# Altium footprint library R8 Bran.PcbLib: 70 footprints (part 3 of 5)
Each footprint in its own frame and in the unit in brackets; x right, y up, seen from the top. Pads: shape width x height; smd on the part's side, far side on the other; paste and mask are expansions set on the pad; w line width, h text height; cw(c..) or ccw(c..) is an arc to the next point about the centre after c.
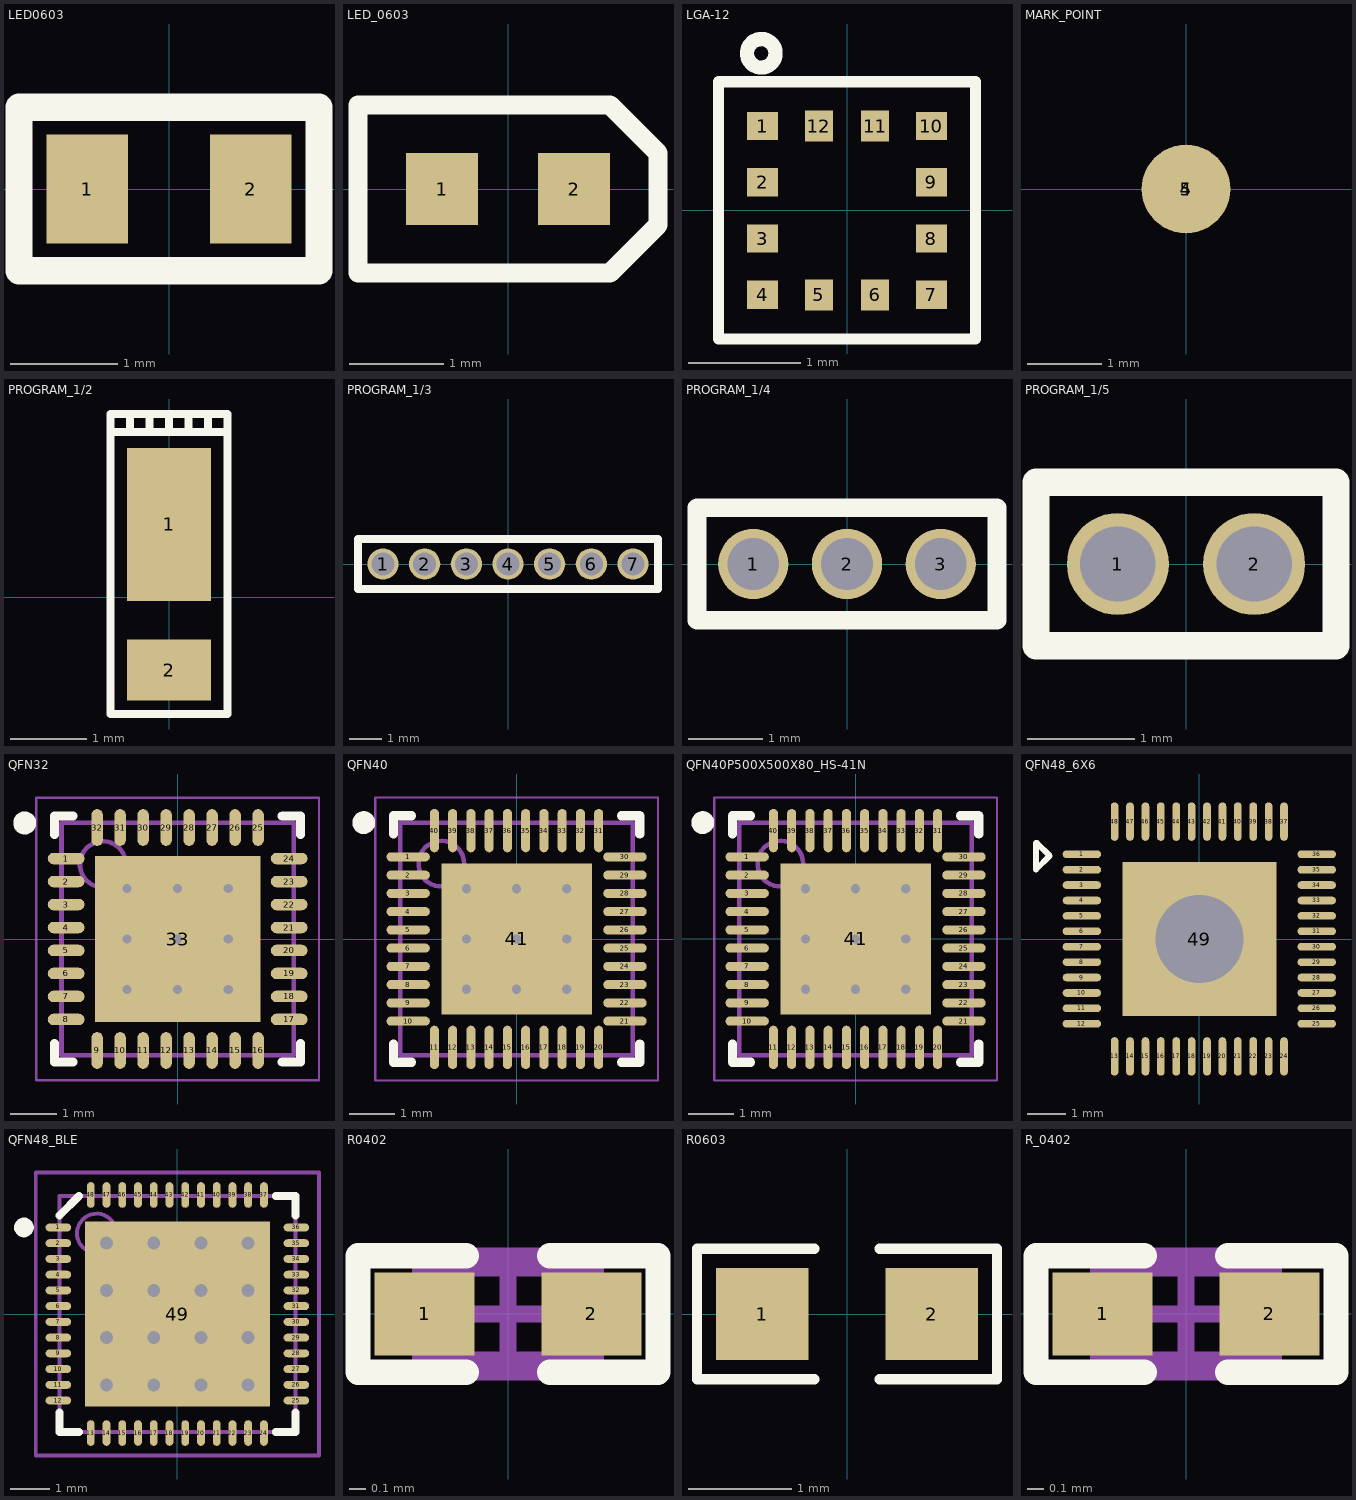
[diagram p2: the footprints below, top view; thin cyan lines are the x and y axes]

## LED0603 [mil]
pads (2):
  rect 30x40 smd: 1(-30,0) 2(30,0)
Top Overlay:
  lines w10: -55,-30 55,-30 55,30 -55,30 -55,-30
3D body: height 31.5, standoff 0, extent -49,-24 49,24

## LED_0603 [mil]
pads (2):
  rect 30x30 smd: 1(-27.5,0) 2(27.5,0)
Top Overlay:
  lines w8: -62.5,-35 42.5,-35 62.5,-15 62.5,15 42.5,35 -62.5,35 -62.5,-35
3D body: height 19.68, standoff 0, extent -66.5,-39 66.5,39

## LGA-12 [mm]
pads (12):
  rect 0.275x0.25 smd: 1(-0.75,0.75) 2(-0.75,0.25) 3(-0.75,-0.25) 4(-0.75,-0.75) 7(0.75,-0.75) 8(0.75,-0.25) 9(0.75,0.25) 10(0.75,0.75)
  rect 0.25x0.275 smd: 5(-0.25,-0.75) 6(0.25,-0.75) 11(0.25,0.75) 12(-0.25,0.75)
Top Overlay:
  circle w0.127: c-0.762,1.397 r0.127
  lines w0.1: -1.143,-1.143 -1.143,1.143 1.143,1.143 1.143,-1.143 -1.143,-1.143

## MARK_POINT [mm]
pads (2):
  round 1.2 smd: 4(0,0)
  round 4.064 on Top Solder: 5(0,0)

## PROGRAM_1/2 [mm]
pads (2):
  rect 1.1x2 smd: 1(0,0.95)
  rect 1.1x0.8 smd: 2(0,-0.95)
Top Overlay:
  lines w0.102: -0.508,2.159 -0.508,2.392 ; -0.254,2.159 -0.254,2.392 ; 0,2.159 0,2.392 ; 0.254,2.159 0.254,2.392 ; 0.508,2.159 0.508,2.392 ; -0.762,2.159 -0.762,2.392 0.762,2.392 0.762,2.159 ; -0.762,2.159 -0.762,-1.524 0.762,-1.524 0.762,2.159 ; -0.762,2.159 0.762,2.159
3D body: height 0.8, standoff 0, extent -0.652,-1.452 0.652,2.052

## PROGRAM_1/3 [mm]
pads (7):
  round 0.95 hole 0.7: 1(-3.81,0) 2(-2.54,0) 3(-1.27,0) 4(0,0) 5(1.27,0) 6(2.54,0) 7(3.81,0)
Top Overlay:
  lines w0.254: -4.572,-0.762 4.572,-0.762 4.572,0.762 -4.572,0.762 -4.572,-0.762

## PROGRAM_1/4 [mm]
pads (3):
  round 0.95 hole 0.7: 1(-1.27,0) 2(0,0) 3(1.27,0)
Top Overlay:
  lines w0.254: -2.032,-0.762 2.032,-0.762 2.032,0.762 -2.032,0.762 -2.032,-0.762

## PROGRAM_1/5 [mm]
pads (2):
  round 0.95 hole 0.7: 1(-0.635,0) 2(0.635,0)
Top Overlay:
  lines w0.254: -1.397,-0.762 1.397,-0.762 1.397,0.762 -1.397,0.762 -1.397,-0.762

## QFN32 [mm] "QFN, 32-Leads, Body 5.00x5.00mm, Pitch 0.50mm, Thermal Pad 3.70x3.70mm, IPC Medium Density"
height 0.8
pads (33):
  oval 0.8x0.25 smd: 1(-2.425,1.75) 2(-2.425,1.25) 3(-2.425,0.75) 4(-2.425,0.25) 5(-2.425,-0.25) 6(-2.425,-0.75) 7(-2.425,-1.25) 8(-2.425,-1.75) 17(2.425,-1.75) 18(2.425,-1.25) 19(2.425,-0.75) 20(2.425,-0.25) 21(2.425,0.25) 22(2.425,0.75) 23(2.425,1.25) 24(2.425,1.75)
  oval 0.25x0.8 smd: 9(-1.75,-2.425) 10(-1.25,-2.425) 11(-0.75,-2.425) 12(-0.25,-2.425) 13(0.25,-2.425) 14(0.75,-2.425) 15(1.25,-2.425) 16(1.75,-2.425) 25(1.75,2.425) 26(1.25,2.425) 27(0.75,2.425) 28(0.25,2.425) 29(-0.25,2.425) 30(-0.75,2.425) 31(-1.25,2.425) 32(-1.75,2.425)
  rect 3.6x3.6 smd: 33(0,0)
via -1.1,1.1 diameter 0.5 hole 0.2
via 0,1.1 diameter 0.5 hole 0.2
via 1.1,1.1 diameter 0.5 hole 0.2
via -1.1,0 diameter 0.5 hole 0.2
via 0,0 diameter 0.5 hole 0.2
via 1.1,0 diameter 0.5 hole 0.2
via -1.1,-1.1 diameter 0.5 hole 0.2
via 0,-1.1 diameter 0.5 hole 0.2
via 1.1,-1.1 diameter 0.5 hole 0.2
Top Overlay:
  circle w0.25: c-3.325,2.525 r0.125
  lines w0.2: -2.675,-2.275 -2.675,-2.675 -2.275,-2.675 ; -2.675,2.275 -2.675,2.675 -2.275,2.675 ; 2.275,-2.675 2.675,-2.675 2.675,-2.275 ; 2.275,2.675 2.675,2.675 2.675,2.275
Mechanical 13:
  circle w0.1: c-1.625,1.625 r0.5
  lines w0.1: -2.525,-2.525 -2.525,2.525 2.525,2.525 2.525,-2.525 -2.525,-2.525
Mechanical 15:
  lines w0.05: -3.075,-3.075 -3.075,3.075 3.075,3.075 3.075,-3.075 -3.075,-3.075
  lines w0.1: -0.5,0 0.5,0 ; 0,-0.5 0,0.5
3D body: height 0.8, standoff 0, extent -2.525,-2.525 2.525,2.525

## QFN40 [mm]
height 0.8
pads (41):
  oval 0.95x0.2 smd: 1(-2.375,1.8) 2(-2.375,1.4) 3(-2.375,1) 4(-2.375,0.6) 5(-2.375,0.2) 6(-2.375,-0.2) 7(-2.375,-0.6) 8(-2.375,-1) 9(-2.375,-1.4) 10(-2.375,-1.8) 21(2.375,-1.8) 22(2.375,-1.4) 23(2.375,-1) 24(2.375,-0.6) 25(2.375,-0.2) 26(2.375,0.2) 27(2.375,0.6) 28(2.375,1) 29(2.375,1.4) 30(2.375,1.8)
  oval 0.2x0.95 smd: 11(-1.8,-2.375) 12(-1.4,-2.375) 13(-1,-2.375) 14(-0.6,-2.375) 15(-0.2,-2.375) 16(0.2,-2.375) 17(0.6,-2.375) 18(1,-2.375) 19(1.4,-2.375) 20(1.8,-2.375) 31(1.8,2.375) 32(1.4,2.375) 33(1,2.375) 34(0.6,2.375) 35(0.2,2.375) 36(-0.2,2.375) 37(-0.6,2.375) 38(-1,2.375) 39(-1.4,2.375) 40(-1.8,2.375)
  rect 3.3x3.3 smd: 41(0,0)
via 1.1,-1.1 diameter 0.5 hole 0.2
via 0,-1.1 diameter 0.5 hole 0.2
via -1.1,-1.1 diameter 0.5 hole 0.2
via 1.1,0 diameter 0.5 hole 0.2
via 0,0 diameter 0.5 hole 0.2
via -1.1,0 diameter 0.5 hole 0.2
via 1.1,1.1 diameter 0.5 hole 0.2
via 0,1.1 diameter 0.5 hole 0.2
via -1.1,1.1 diameter 0.5 hole 0.2
Top Overlay:
  circle w0.25: c-3.35,2.55 r0.125
  lines w0.2: -2.7,-2.3 -2.7,-2.7 -2.3,-2.7 ; -2.7,2.3 -2.7,2.7 -2.3,2.7 ; 2.3,-2.7 2.7,-2.7 2.7,-2.3 ; 2.3,2.7 2.7,2.7 2.7,2.3
Mechanical 13:
  circle w0.1: c-1.65,1.65 r0.5
  lines w0.1: -2.55,-2.55 2.55,-2.55 2.55,2.55 -2.55,2.55 -2.55,-2.55
Mechanical 15:
  lines w0.05: -3.1,-3.1 3.1,-3.1 3.1,3.1 -3.1,3.1 -3.1,-3.1
  lines w0.1: -0.5,0 0.5,0 ; 0,-0.5 0,0.5
3D body: height 0.8, standoff 0, extent -2.55,-2.55 2.55,2.55

## QFN40P500X500X80_HS-41N [mm] "QFN, 40-Leads, Body 5.00x5.00mm, Pitch 0.40mm, Thermal Pad 3.30x3.30mm, IPC Medium Density"
height 0.8
pads (41):
  oval 0.95x0.2 smd: 1(-2.375,1.8) 2(-2.375,1.4) 3(-2.375,1) 4(-2.375,0.6) 5(-2.375,0.2) 6(-2.375,-0.2) 7(-2.375,-0.6) 8(-2.375,-1) 9(-2.375,-1.4) 10(-2.375,-1.8) 21(2.375,-1.8) 22(2.375,-1.4) 23(2.375,-1) 24(2.375,-0.6) 25(2.375,-0.2) 26(2.375,0.2) 27(2.375,0.6) 28(2.375,1) 29(2.375,1.4) 30(2.375,1.8)
  oval 0.2x0.95 smd: 11(-1.8,-2.375) 12(-1.4,-2.375) 13(-1,-2.375) 14(-0.6,-2.375) 15(-0.2,-2.375) 16(0.2,-2.375) 17(0.6,-2.375) 18(1,-2.375) 19(1.4,-2.375) 20(1.8,-2.375) 31(1.8,2.375) 32(1.4,2.375) 33(1,2.375) 34(0.6,2.375) 35(0.2,2.375) 36(-0.2,2.375) 37(-0.6,2.375) 38(-1,2.375) 39(-1.4,2.375) 40(-1.8,2.375)
  rect 3.3x3.3 smd: 41(0,0)
via -1.1,1.1 diameter 0.5 hole 0.2
via 0,1.1 diameter 0.5 hole 0.2
via 1.1,1.1 diameter 0.5 hole 0.2
via -1.1,0 diameter 0.5 hole 0.2
via 0,0 diameter 0.5 hole 0.2
via 1.1,0 diameter 0.5 hole 0.2
via -1.1,-1.1 diameter 0.5 hole 0.2
via 0,-1.1 diameter 0.5 hole 0.2
via 1.1,-1.1 diameter 0.5 hole 0.2
Top Overlay:
  circle w0.25: c-3.35,2.55 r0.125
  lines w0.2: -2.7,-2.3 -2.7,-2.7 -2.3,-2.7 ; -2.7,2.3 -2.7,2.7 -2.3,2.7 ; 2.3,-2.7 2.7,-2.7 2.7,-2.3 ; 2.3,2.7 2.7,2.7 2.7,2.3
Mechanical 13:
  circle w0.1: c-1.65,1.65 r0.5
  lines w0.1: -2.55,-2.55 -2.55,2.55 2.55,2.55 2.55,-2.55 -2.55,-2.55
Mechanical 15:
  lines w0.05: -3.1,-3.1 -3.1,3.1 3.1,3.1 3.1,-3.1 -3.1,-3.1
  lines w0.1: -0.5,0 0.5,0 ; 0,-0.5 0,0.5
3D body: height 0.8, standoff 0, extent -2.55,-2.55 2.55,2.55

## QFN48_6X6 [mm]
pads (49):
  oval 1x0.2 smd: 1(-3.05,2.2) 2(-3.05,1.8) 3(-3.05,1.4) 4(-3.05,1) 5(-3.05,0.6) 6(-3.05,0.2) 7(-3.05,-0.2) 8(-3.05,-0.6) 9(-3.05,-1) 10(-3.05,-1.4) 11(-3.05,-1.8) 12(-3.05,-2.2) 25(3.05,-2.2) 26(3.05,-1.8) 27(3.05,-1.4) 28(3.05,-1) 29(3.05,-0.6) 30(3.05,-0.2) 31(3.05,0.2) 32(3.05,0.6) 33(3.05,1) 34(3.05,1.4) 35(3.05,1.8) 36(3.05,2.2)
  oval 0.2x1 smd: 13(-2.2,-3.05) 14(-1.8,-3.05) 15(-1.4,-3.05) 16(-1,-3.05) 17(-0.6,-3.05) 18(-0.2,-3.05) 19(0.2,-3.05) 20(0.6,-3.05) 21(1,-3.05) 22(1.4,-3.05) 23(1.8,-3.05) 24(2.2,-3.05) 37(2.2,3.05) 38(1.8,3.05) 39(1.4,3.05) 40(1,3.05) 41(0.6,3.05) 42(0.2,3.05) 43(-0.2,3.05) 44(-0.6,3.05) 45(-1,3.05) 46(-1.4,3.05) 47(-1.8,3.05) 48(-2.2,3.05)
  rect 4x4 / inner round 3.048 / far side round 3.048 hole 2.286: 49(0,0)
Top Overlay:
  lines w0.152: -4.242,1.803 -3.886,2.159 -4.216,2.489 -4.242,2.489 -4.242,1.803

## QFN48_BLE [mm]
pads (49):
  oval 0.65x0.2 smd: 1(-3.025,2.2) 2(-3.025,1.8) 3(-3.025,1.4) 4(-3.025,1) 5(-3.025,0.6) 6(-3.025,0.2) 7(-3.025,-0.2) 8(-3.025,-0.6) 9(-3.025,-1) 10(-3.025,-1.4) 11(-3.025,-1.8) 12(-3.025,-2.2) 25(3.025,-2.2) 26(3.025,-1.8) 27(3.025,-1.4) 28(3.025,-1) 29(3.025,-0.6) 30(3.025,-0.2) 31(3.025,0.2) 32(3.025,0.6) 33(3.025,1) 34(3.025,1.4) 35(3.025,1.8) 36(3.025,2.2)
  oval 0.2x0.65 smd: 13(-2.2,-3.025) 14(-1.8,-3.025) 15(-1.4,-3.025) 16(-1,-3.025) 17(-0.6,-3.025) 18(-0.2,-3.025) 19(0.2,-3.025) 20(0.6,-3.025) 21(1,-3.025) 22(1.4,-3.025) 23(1.8,-3.025) 24(2.2,-3.025) 37(2.2,3.025) 38(1.8,3.025) 39(1.4,3.025) 40(1,3.025) 41(0.6,3.025) 42(0.2,3.025) 43(-0.2,3.025) 44(-0.6,3.025) 45(-1,3.025) 46(-1.4,3.025) 47(-1.8,3.025) 48(-2.2,3.025)
  rect 4.7x4.7 smd: 49(0,0)
via -1.8,1.8 diameter 0.66 hole 0.33
via -0.6,1.8 diameter 0.66 hole 0.33
via 0.6,1.8 diameter 0.66 hole 0.33
via 1.8,1.8 diameter 0.66 hole 0.33
via -1.8,0.6 diameter 0.66 hole 0.33
via -0.6,0.6 diameter 0.66 hole 0.33
via 0.6,0.6 diameter 0.66 hole 0.33
via 1.8,0.6 diameter 0.66 hole 0.33
via -1.8,-0.6 diameter 0.66 hole 0.33
via -0.6,-0.6 diameter 0.66 hole 0.33
via 0.6,-0.6 diameter 0.66 hole 0.33
via 1.8,-0.6 diameter 0.66 hole 0.33
via -1.8,-1.8 diameter 0.66 hole 0.33
via -0.6,-1.8 diameter 0.66 hole 0.33
via 0.6,-1.8 diameter 0.66 hole 0.33
via 1.8,-1.8 diameter 0.66 hole 0.33
Top Overlay:
  circle w0.25: c-3.9,2.2 r0.125
  lines w0.2: -3,-2.5 -3,-3 -2.5,-3 ; -3,2.5 -2.5,3 ; 2.5,-3 3,-3 3,-2.5 ; 2.5,3 3,3 3,2.5
Mechanical 13:
  circle w0.1: c-2.05,2.05 r0.5
  lines w0.1: -3,-3 -3,3 3,3 3,-3 -3,-3
Mechanical 15:
  lines w0.1: -0.5,0 0.5,0 ; 0,-0.5 0,0.5 ; -3.6,-3.6 -3.6,3.6 3.6,3.6 3.6,-3.6 -3.6,-3.6
3D body "User Library-QFN48.step": height 0.86, standoff -0.01, extent -3.02,-3.02 3.02,3.02

## R0402 [mm]
pads (2):
  rect 0.6x0.5 smd: 1(-0.5,0) 2(0.5,0)
Top Overlay:
  lines w0.152: -0.25,-0.35 -0.9,-0.35 -0.9,0.35 -0.25,0.35 ; 0.25,-0.35 0.9,-0.35 0.9,0.35 0.25,0.35
Mechanical 13:
  lines w0.1: -0.525,-0.275 -0.525,0.275 0.525,0.275 0.525,-0.275 -0.525,-0.275
Mechanical 15:
  lines w0.1: -0.275,0 0.275,0 ; 0,-0.275 0,0.275 ; -0.9,-0.35 0.9,-0.35 0.9,0.35 -0.9,0.35 -0.9,-0.35
3D body "User Library-0402(1005M) Cap.step": height 0.5, standoff -0.01, extent -0.508,-0.254 0.508,0.254

## R0603 [mm]
pads (2):
  rect 0.9x0.9 smd: 1(-0.826,0) 2(0.826,0)
Top Overlay:
  lines w0.102: -0.318,-0.635 -1.46,-0.635 -1.46,0.635 -0.318,0.635 ; 0.318,-0.635 1.46,-0.635 1.46,0.635 0.318,0.635
3D body: height 0.5, standoff 0, extent -1.377,-0.552 1.377,0.552

## R_0402 [mm]
pads (2):
  rect 0.6x0.5 smd: 1(-0.5,0) 2(0.5,0)
Top Overlay:
  lines w0.152: -0.25,-0.35 -0.9,-0.35 -0.9,0.35 -0.25,0.35 ; 0.25,-0.35 0.9,-0.35 0.9,0.35 0.25,0.35
Mechanical 13:
  lines w0.1: -0.525,-0.275 -0.525,0.275 0.525,0.275 0.525,-0.275 -0.525,-0.275
Mechanical 15:
  lines w0.1: -0.275,0 0.275,0 ; 0,-0.275 0,0.275 ; -0.9,-0.35 0.9,-0.35 0.9,0.35 -0.9,0.35 -0.9,-0.35
3D body "User Library-0402(1005M) Cap.step": height 0.5, standoff -0.01, extent -0.508,-0.254 0.508,0.254